# Altium integrated library Analog Devices Temperature Sensors.IntLib: 271 symbols (part 8 of 14)
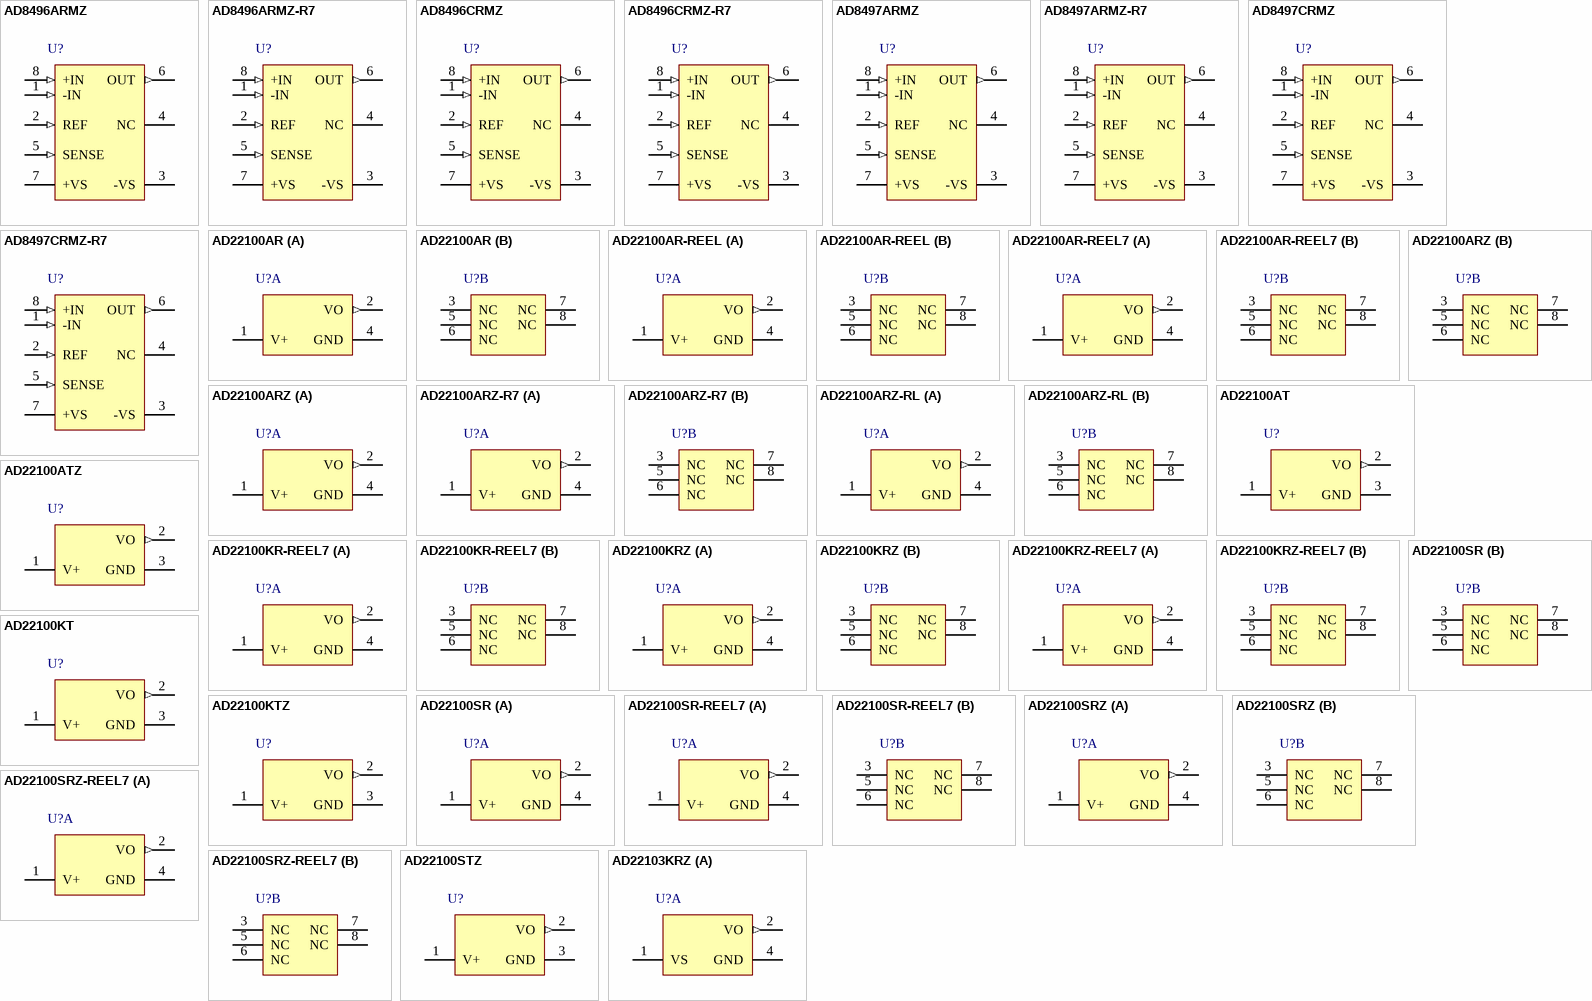
[diagram p14: symbols AD8496ARMZ to AD22103KRZ]

## AD22100AR-REEL7
designator U?
Voltage Output Temperature Sensor with Signal Conditioning, 4 to 6.5 V Supply, Industrial, 8-pin SOIC (R-8), Reel; Manufacturer: Analog Devices; PartNumber: AD22100AR-REEL7; DatasheetVersion: Rev. D; PackageVersion: 060506-A, 06/2006; PackageReference: R-8; PackageDescription: 8-Pin Standard Small Outline Package, Body 4.9 x 3.9 mm, Pitch 1.27 mm; Supplier 1: Digi-Key; Supplier Part Number 1: AD22100AR-REEL7-ND; Supplier 2: Newark; Supplier Part Number 2: 09B5052; Supplier 3: Mouser; Supplier Part Number 3: 584-AD22100AR-R7; Packing: Reel; Supply Voltage Range: 4 to 6.5 V; Mounting Technology: Surface Mount; Code_JEDEC: MS-012-AA; ComponentLink1Description: Manufacturer URL; ComponentLink1URL: http://www.analog.com/en/index.html; ComponentLink2Description: Datasheet; ComponentLink2URL: http://www.analog.com/static/imported-files/data_sheets/AD22100.pdf; ComponentLink3Description: Package Specification; ComponentLink3URL: http://www.analog.com/static/imported-files/packages/PKG_PDF/SOIC_Narrow%20(R)/R_8.pdf; ComponentLink4Description: Product URL; ComponentLink4URL: http://www.analog.com/en/mems-sensors/digital-temperature-sensors/ad22100/products/product.html
footprint ADI-R-8_N (SOIC, 8-Leads, Body 4.9x3.9mm, Pitch 1.27mm, IPC Medium Density)
footprint ADI-R-8_L (SOIC, 8-Leads, Body 4.9x3.9mm, Pitch 1.27mm, IPC High Density)
footprint ADI-R-8_M (SOIC, 8-Leads, Body 4.9x3.9mm, Pitch 1.27mm, IPC Low Density)
part A pins: 1 V+ (power) "Power Supply Input.", 2 VO (out) "Device Output.", 4 GND (power) "Ground Pin Must Be Connected to 0 V."
part B pins: 3 NC "No Connect.", 5 NC "No Connect.", 6 NC "No Connect.", 7 NC "No Connect.", 8 NC "No Connect."

## AD22100ARZ
designator U?
Voltage Output Temperature Sensor with Signal Conditioning, 4 to 6.5 V Supply, Industrial, 8-pin SOIC (R-8), Tube; Manufacturer: Analog Devices; PartNumber: AD22100ARZ; DatasheetVersion: Rev. D; PackageVersion: 060506-A, 06/2006; PackageReference: R-8; PackageDescription: 8-Pin Standard Small Outline Package, Body 4.9 x 3.9 mm, Pitch 1.27 mm; Supplier 1: Digi-Key; Supplier Part Number 1: AD22100ARZ-ND; Supplier 2: Newark; Supplier Part Number 2: 19M8799; Supplier 3: Mouser; Supplier Part Number 3: 584-AD22100ARZ; Packing: Tube; Supply Voltage Range: 4 to 6.5 V; Mounting Technology: Surface Mount; Code_JEDEC: MS-012-AA; ComponentLink1Description: Manufacturer URL; ComponentLink1URL: http://www.analog.com/en/index.html; ComponentLink2Description: Datasheet; ComponentLink2URL: http://www.analog.com/static/imported-files/data_sheets/AD22100.pdf; ComponentLink3Description: Package Specification; ComponentLink3URL: http://www.analog.com/static/imported-files/packages/PKG_PDF/SOIC_Narrow%20(R)/R_8.pdf; ComponentLink4Description: Product URL; ComponentLink4URL: http://www.analog.com/en/mems-sensors/digital-temperature-sensors/ad22100/products/product.html
footprint ADI-R-8_N (SOIC, 8-Leads, Body 4.9x3.9mm, Pitch 1.27mm, IPC Medium Density)
footprint ADI-R-8_L (SOIC, 8-Leads, Body 4.9x3.9mm, Pitch 1.27mm, IPC High Density)
footprint ADI-R-8_M (SOIC, 8-Leads, Body 4.9x3.9mm, Pitch 1.27mm, IPC Low Density)
part A pins: 1 V+ (power) "Power Supply Input.", 2 VO (out) "Device Output.", 4 GND (power) "Ground Pin Must Be Connected to 0 V."
part B pins: 3 NC "No Connect.", 5 NC "No Connect.", 6 NC "No Connect.", 7 NC "No Connect.", 8 NC "No Connect."

## AD22100ARZ-R7
designator U?
Voltage Output Temperature Sensor with Signal Conditioning, 4 to 6.5 V Supply, Industrial, 8-pin SOIC (R-8), Reel; Manufacturer: Analog Devices; PartNumber: AD22100ARZ-R7; DatasheetVersion: Rev. D; PackageVersion: 060506-A, 06/2006; PackageReference: R-8; PackageDescription: 8-Pin Standard Small Outline Package, Body 4.9 x 3.9 mm, Pitch 1.27 mm; Supplier 1: Digi-Key; Supplier Part Number 1: AD22100ARZ-R7-ND; Supplier 2: Newark; Supplier Part Number 2: 59K3505; Supplier 3: Mouser; Supplier Part Number 3: 584-AD22100ARZ-R7; Packing: Reel; Supply Voltage Range: 4 to 6.5 V; Mounting Technology: Surface Mount; Code_JEDEC: MS-012-AA; ComponentLink1Description: Manufacturer URL; ComponentLink1URL: http://www.analog.com/en/index.html; ComponentLink2Description: Datasheet; ComponentLink2URL: http://www.analog.com/static/imported-files/data_sheets/AD22100.pdf; ComponentLink3Description: Package Specification; ComponentLink3URL: http://www.analog.com/static/imported-files/packages/PKG_PDF/SOIC_Narrow%20(R)/R_8.pdf; ComponentLink4Description: Product URL; ComponentLink4URL: http://www.analog.com/en/mems-sensors/digital-temperature-sensors/ad22100/products/product.html
footprint ADI-R-8_N (SOIC, 8-Leads, Body 4.9x3.9mm, Pitch 1.27mm, IPC Medium Density)
footprint ADI-R-8_L (SOIC, 8-Leads, Body 4.9x3.9mm, Pitch 1.27mm, IPC High Density)
footprint ADI-R-8_M (SOIC, 8-Leads, Body 4.9x3.9mm, Pitch 1.27mm, IPC Low Density)
part A pins: 1 V+ (power) "Power Supply Input.", 2 VO (out) "Device Output.", 4 GND (power) "Ground Pin Must Be Connected to 0 V."
part B pins: 3 NC "No Connect.", 5 NC "No Connect.", 6 NC "No Connect.", 7 NC "No Connect.", 8 NC "No Connect."

## AD22100ARZ-RL
designator U?
Voltage Output Temperature Sensor with Signal Conditioning, 4 to 6.5 V Supply, Industrial, 8-pin SOIC (R-8), Reel; Manufacturer: Analog Devices; PartNumber: AD22100ARZ-RL; DatasheetVersion: Rev. D; PackageVersion: 060506-A, 06/2006; PackageReference: R-8; PackageDescription: 8-Pin Standard Small Outline Package, Body 4.9 x 3.9 mm, Pitch 1.27 mm; Supplier 1: Digi-Key; Supplier Part Number 1: AD22100ARZ-RL-ND; Supplier 2: Newark; Supplier Part Number 2: 59K3504; Supplier 3: Mouser; Supplier Part Number 3: 584-AD22100ARZ-R; Packing: Reel; Supply Voltage Range: 4 to 6.5 V; Mounting Technology: Surface Mount; Code_JEDEC: MS-012-AA; ComponentLink1Description: Manufacturer URL; ComponentLink1URL: http://www.analog.com/en/index.html; ComponentLink2Description: Datasheet; ComponentLink2URL: http://www.analog.com/static/imported-files/data_sheets/AD22100.pdf; ComponentLink3Description: Package Specification; ComponentLink3URL: http://www.analog.com/static/imported-files/packages/PKG_PDF/SOIC_Narrow%20(R)/R_8.pdf; ComponentLink4Description: Product URL; ComponentLink4URL: http://www.analog.com/en/mems-sensors/digital-temperature-sensors/ad22100/products/product.html
footprint ADI-R-8_N (SOIC, 8-Leads, Body 4.9x3.9mm, Pitch 1.27mm, IPC Medium Density)
footprint ADI-R-8_L (SOIC, 8-Leads, Body 4.9x3.9mm, Pitch 1.27mm, IPC High Density)
footprint ADI-R-8_M (SOIC, 8-Leads, Body 4.9x3.9mm, Pitch 1.27mm, IPC Low Density)
part A pins: 1 V+ (power) "Power Supply Input.", 2 VO (out) "Device Output.", 4 GND (power) "Ground Pin Must Be Connected to 0 V."
part B pins: 3 NC "No Connect.", 5 NC "No Connect.", 6 NC "No Connect.", 7 NC "No Connect.", 8 NC "No Connect."

## AD22100AT
designator U?
Voltage Output Temperature Sensor with Signal Conditioning, 4 to 6.5 V Supply, Industrial, 3-pin TO92 (T-3), Tray; Manufacturer: Analog Devices; PartNumber: AD22100AT; DatasheetVersion: Rev. D; PackageVersion: 042208-A, 04/2008; PackageReference: T-3; PackageDescription: 3-Pin Plastic Header-Style Package, 1.27 mm Pitch; Supplier 1: Digi-Key; Supplier Part Number 1: AD22100AT-ND; Supplier 2: Mouser; Supplier Part Number 2: 584-AD22100AT; Packing: Tray; Supply Voltage Range: 4 to 6.5 V; Mounting Technology: Through Hole; Code_JEDEC: TO-226-AA; ComponentLink1Description: Manufacturer URL; ComponentLink1URL: http://www.analog.com/en/index.html; ComponentLink2Description: Datasheet; ComponentLink2URL: http://www.analog.com/static/imported-files/data_sheets/AD22100.pdf; ComponentLink3Description: Package Specification; ComponentLink3URL: http://www.analog.com/static/imported-files/packages/PKG_PDF/TO-92(T)/T_3.pdf; ComponentLink4Description: Product URL; ComponentLink4URL: http://www.analog.com/en/mems-sensors/digital-temperature-sensors/ad22100/products/product.html
footprint ADI-T-3 (TO, Flat Index; 3 In-Line, Axial Leads; Body Dia. 5.1mm; Leads 0.48 x 0.48 mm (max))
pins: 1 V+ (power) "Power Supply Input.", 2 VO (out) "Device Output.", 3 GND (power) "Ground Pin Must Be Connected to 0 V."

## AD22100ATZ
designator U?
Voltage Output Temperature Sensor with Signal Conditioning, 4 to 6.5 V Supply, Industrial, 3-pin TO92 (T-3), Tray; Manufacturer: Analog Devices; PartNumber: AD22100ATZ; DatasheetVersion: Rev. D; PackageVersion: 042208-A, 04/2008; PackageReference: T-3; PackageDescription: 3-Pin Plastic Header-Style Package, 1.27 mm Pitch; Supplier 1: Digi-Key; Supplier Part Number 1: AD22100ATZ-ND; Supplier 2: Farnell; Supplier Part Number 2: 1438411; Supplier 3: Newark; Supplier Part Number 3: 59K3506; Supplier 4: Mouser; Supplier Part Number 4: 584-AD22100ATZ; Packing: Tray; Supply Voltage Range: 4 to 6.5 V; Mounting Technology: Through Hole; Code_JEDEC: TO-226-AA; ComponentLink1Description: Manufacturer URL; ComponentLink1URL: http://www.analog.com/en/index.html; ComponentLink2Description: Datasheet; ComponentLink2URL: http://www.analog.com/static/imported-files/data_sheets/AD22100.pdf; ComponentLink3Description: Package Specification; ComponentLink3URL: http://www.analog.com/static/imported-files/packages/PKG_PDF/TO-92(T)/T_3.pdf; ComponentLink4Description: Product URL; ComponentLink4URL: http://www.analog.com/en/mems-sensors/digital-temperature-sensors/ad22100/products/product.html
footprint ADI-T-3 (TO, Flat Index; 3 In-Line, Axial Leads; Body Dia. 5.1mm; Leads 0.48 x 0.48 mm (max))
pins: 1 V+ (power) "Power Supply Input.", 2 VO (out) "Device Output.", 3 GND (power) "Ground Pin Must Be Connected to 0 V."

## AD22100KR-REEL7
designator U?
Voltage Output Temperature Sensor with Signal Conditioning, 4 to 6.5 V Supply, Industrial, 8-pin SOIC (R-8), Reel; Manufacturer: Analog Devices; PartNumber: AD22100KR-REEL7; DatasheetVersion: Rev. D; PackageVersion: 060506-A, 06/2006; PackageReference: R-8; PackageDescription: 8-Pin Standard Small Outline Package, Body 4.9 x 3.9 mm, Pitch 1.27 mm; Supplier 1: Mouser; Supplier Part Number 1: N/A; Packing: Reel; Supply Voltage Range: 4 to 6.5 V; Mounting Technology: Surface Mount; Code_JEDEC: MS-012-AA; ComponentLink1Description: Manufacturer URL; ComponentLink1URL: http://www.analog.com/en/index.html; ComponentLink2Description: Datasheet; ComponentLink2URL: http://www.analog.com/static/imported-files/data_sheets/AD22100.pdf; ComponentLink3Description: Package Specification; ComponentLink3URL: http://www.analog.com/static/imported-files/packages/PKG_PDF/SOIC_Narrow%20(R)/R_8.pdf; ComponentLink4Description: Product URL; ComponentLink4URL: http://www.analog.com/en/mems-sensors/digital-temperature-sensors/ad22100/products/product.html
footprint ADI-R-8_N (SOIC, 8-Leads, Body 4.9x3.9mm, Pitch 1.27mm, IPC Medium Density)
footprint ADI-R-8_L (SOIC, 8-Leads, Body 4.9x3.9mm, Pitch 1.27mm, IPC High Density)
footprint ADI-R-8_M (SOIC, 8-Leads, Body 4.9x3.9mm, Pitch 1.27mm, IPC Low Density)
part A pins: 1 V+ (power) "Power Supply Input.", 2 VO (out) "Device Output.", 4 GND (power) "Ground Pin Must Be Connected to 0 V."
part B pins: 3 NC "No Connect.", 5 NC "No Connect.", 6 NC "No Connect.", 7 NC "No Connect.", 8 NC "No Connect."

## AD22100KRZ
designator U?
Voltage Output Temperature Sensor with Signal Conditioning, 4 to 6.5 V Supply, Industrial, 8-pin SOIC (R-8), Tube; Manufacturer: Analog Devices; PartNumber: AD22100KRZ; DatasheetVersion: Rev. D; PackageVersion: 060506-A, 06/2006; PackageReference: R-8; PackageDescription: 8-Pin Standard Small Outline Package, Body 4.9 x 3.9 mm, Pitch 1.27 mm; Supplier 1: Digi-Key; Supplier Part Number 1: AD22100KRZ-ND; Supplier 2: Farnell; Supplier Part Number 2: 1438412; Supplier 3: Newark; Supplier Part Number 3: 87H9743; Supplier 4: Mouser; Supplier Part Number 4: 584-AD22100KRZ; Packing: Tube; Supply Voltage Range: 4 to 6.5 V; Mounting Technology: Surface Mount; Code_JEDEC: MS-012-AA; ComponentLink1Description: Manufacturer URL; ComponentLink1URL: http://www.analog.com/en/index.html; ComponentLink2Description: Datasheet; ComponentLink2URL: http://www.analog.com/static/imported-files/data_sheets/AD22100.pdf; ComponentLink3Description: Package Specification; ComponentLink3URL: http://www.analog.com/static/imported-files/packages/PKG_PDF/SOIC_Narrow%20(R)/R_8.pdf; ComponentLink4Description: Product URL; ComponentLink4URL: http://www.analog.com/en/mems-sensors/digital-temperature-sensors/ad22100/products/product.html
footprint ADI-R-8_N (SOIC, 8-Leads, Body 4.9x3.9mm, Pitch 1.27mm, IPC Medium Density)
footprint ADI-R-8_L (SOIC, 8-Leads, Body 4.9x3.9mm, Pitch 1.27mm, IPC High Density)
footprint ADI-R-8_M (SOIC, 8-Leads, Body 4.9x3.9mm, Pitch 1.27mm, IPC Low Density)
part A pins: 1 V+ (power) "Power Supply Input.", 2 VO (out) "Device Output.", 4 GND (power) "Ground Pin Must Be Connected to 0 V."
part B pins: 3 NC "No Connect.", 5 NC "No Connect.", 6 NC "No Connect.", 7 NC "No Connect.", 8 NC "No Connect."

## AD22100KRZ-REEL7
designator U?
Voltage Output Temperature Sensor with Signal Conditioning, 4 to 6.5 V Supply, Industrial, 8-pin SOIC (R-8), Reel; Manufacturer: Analog Devices; PartNumber: AD22100KRZ-REEL7; DatasheetVersion: Rev. D; PackageVersion: 060506-A, 06/2006; PackageReference: R-8; PackageDescription: 8-Pin Standard Small Outline Package, Body 4.9 x 3.9 mm, Pitch 1.27 mm; Supplier 1: Digi-Key; Supplier Part Number 1: AD22100KRZ-REEL7-ND; Supplier 2: Newark; Supplier Part Number 2: 87H9744; Supplier 3: Mouser; Supplier Part Number 3: 584-AD22100KRZ-R7; Packing: Reel; Supply Voltage Range: 4 to 6.5 V; Mounting Technology: Surface Mount; Code_JEDEC: MS-012-AA; ComponentLink1Description: Manufacturer URL; ComponentLink1URL: http://www.analog.com/en/index.html; ComponentLink2Description: Datasheet; ComponentLink2URL: http://www.analog.com/static/imported-files/data_sheets/AD22100.pdf; ComponentLink3Description: Package Specification; ComponentLink3URL: http://www.analog.com/static/imported-files/packages/PKG_PDF/SOIC_Narrow%20(R)/R_8.pdf; ComponentLink4Description: Product URL; ComponentLink4URL: http://www.analog.com/en/mems-sensors/digital-temperature-sensors/ad22100/products/product.html
footprint ADI-R-8_N (SOIC, 8-Leads, Body 4.9x3.9mm, Pitch 1.27mm, IPC Medium Density)
footprint ADI-R-8_L (SOIC, 8-Leads, Body 4.9x3.9mm, Pitch 1.27mm, IPC High Density)
footprint ADI-R-8_M (SOIC, 8-Leads, Body 4.9x3.9mm, Pitch 1.27mm, IPC Low Density)
part A pins: 1 V+ (power) "Power Supply Input.", 2 VO (out) "Device Output.", 4 GND (power) "Ground Pin Must Be Connected to 0 V."
part B pins: 3 NC "No Connect.", 5 NC "No Connect.", 6 NC "No Connect.", 7 NC "No Connect.", 8 NC "No Connect."

## AD22100KT
designator U?
Voltage Output Temperature Sensor with Signal Conditioning, 4 to 6.5 V Supply, Industrial, 3-pin TO92 (T-3), Tray; Manufacturer: Analog Devices; PartNumber: AD22100KT; DatasheetVersion: Rev. D; PackageVersion: 042208-A, 04/2008; PackageReference: T-3; PackageDescription: 3-Pin Plastic Header-Style Package, 1.27 mm Pitch; Supplier 1: Digi-Key; Supplier Part Number 1: AD22100KT-ND; Supplier 2: Mouser; Supplier Part Number 2: 584-AD22100KT; Packing: Tray; Supply Voltage Range: 4 to 6.5 V; Mounting Technology: Through Hole; Code_JEDEC: TO-226-AA; ComponentLink1Description: Manufacturer URL; ComponentLink1URL: http://www.analog.com/en/index.html; ComponentLink2Description: Datasheet; ComponentLink2URL: http://www.analog.com/static/imported-files/data_sheets/AD22100.pdf; ComponentLink3Description: Package Specification; ComponentLink3URL: http://www.analog.com/static/imported-files/packages/PKG_PDF/TO-92(T)/T_3.pdf; ComponentLink4Description: Product URL; ComponentLink4URL: http://www.analog.com/en/mems-sensors/digital-temperature-sensors/ad22100/products/product.html
footprint ADI-T-3 (TO, Flat Index; 3 In-Line, Axial Leads; Body Dia. 5.1mm; Leads 0.48 x 0.48 mm (max))
pins: 1 V+ (power) "Power Supply Input.", 2 VO (out) "Device Output.", 3 GND (power) "Ground Pin Must Be Connected to 0 V."

## AD22100KTZ
designator U?
Voltage Output Temperature Sensor with Signal Conditioning, 4 to 6.5 V Supply, Industrial, 3-pin TO92 (T-3), Tray; Manufacturer: Analog Devices; PartNumber: AD22100KTZ; DatasheetVersion: Rev. D; PackageVersion: 042208-A, 04/2008; PackageReference: T-3; PackageDescription: 3-Pin Plastic Header-Style Package, 1.27 mm Pitch; Supplier 1: Digi-Key; Supplier Part Number 1: AD22100KTZ-ND; Supplier 2: Farnell; Supplier Part Number 2: 9605320; Supplier 3: Newark; Supplier Part Number 3: 59K3507; Supplier 4: Mouser; Supplier Part Number 4: 584-AD22100KTZ; Packing: Tray; Supply Voltage Range: 4 to 6.5 V; Mounting Technology: Through Hole; Code_JEDEC: TO-226-AA; ComponentLink1Description: Manufacturer URL; ComponentLink1URL: http://www.analog.com/en/index.html; ComponentLink2Description: Datasheet; ComponentLink2URL: http://www.analog.com/static/imported-files/data_sheets/AD22100.pdf; ComponentLink3Description: Package Specification; ComponentLink3URL: http://www.analog.com/static/imported-files/packages/PKG_PDF/TO-92(T)/T_3.pdf; ComponentLink4Description: Product URL; ComponentLink4URL: http://www.analog.com/en/mems-sensors/digital-temperature-sensors/ad22100/products/product.html
footprint ADI-T-3 (TO, Flat Index; 3 In-Line, Axial Leads; Body Dia. 5.1mm; Leads 0.48 x 0.48 mm (max))
pins: 1 V+ (power) "Power Supply Input.", 2 VO (out) "Device Output.", 3 GND (power) "Ground Pin Must Be Connected to 0 V."

## AD22100SR
designator U?
Voltage Output Temperature Sensor with Signal Conditioning, 4 to 6.5 V Supply, Industrial, 8-pin SOIC (R-8), Tube; Manufacturer: Analog Devices; PartNumber: AD22100SR; DatasheetVersion: Rev. D; PackageVersion: 060506-A, 06/2006; PackageReference: R-8; PackageDescription: 8-Pin Standard Small Outline Package, Body 4.9 x 3.9 mm, Pitch 1.27 mm; Supplier 1: Digi-Key; Supplier Part Number 1: AD22100SR-ND; Supplier 2: Mouser; Supplier Part Number 2: 584-AD22100SR; Packing: Tube; Supply Voltage Range: 4 to 6.5 V; Mounting Technology: Surface Mount; Code_JEDEC: MS-012-AA; ComponentLink1Description: Manufacturer URL; ComponentLink1URL: http://www.analog.com/en/index.html; ComponentLink2Description: Datasheet; ComponentLink2URL: http://www.analog.com/static/imported-files/data_sheets/AD22100.pdf; ComponentLink3Description: Package Specification; ComponentLink3URL: http://www.analog.com/static/imported-files/packages/PKG_PDF/SOIC_Narrow%20(R)/R_8.pdf; ComponentLink4Description: Product URL; ComponentLink4URL: http://www.analog.com/en/mems-sensors/digital-temperature-sensors/ad22100/products/product.html
footprint ADI-R-8_N (SOIC, 8-Leads, Body 4.9x3.9mm, Pitch 1.27mm, IPC Medium Density)
footprint ADI-R-8_L (SOIC, 8-Leads, Body 4.9x3.9mm, Pitch 1.27mm, IPC High Density)
footprint ADI-R-8_M (SOIC, 8-Leads, Body 4.9x3.9mm, Pitch 1.27mm, IPC Low Density)
part A pins: 1 V+ (power) "Power Supply Input.", 2 VO (out) "Device Output.", 4 GND (power) "Ground Pin Must Be Connected to 0 V."
part B pins: 3 NC "No Connect.", 5 NC "No Connect.", 6 NC "No Connect.", 7 NC "No Connect.", 8 NC "No Connect."

## AD22100SR-REEL7
designator U?
Voltage Output Temperature Sensor with Signal Conditioning, 4 to 6.5 V Supply, Industrial, 8-pin SOIC (R-8), Reel; Manufacturer: Analog Devices; PartNumber: AD22100SR-REEL7; DatasheetVersion: Rev. D; PackageVersion: 060506-A, 06/2006; PackageReference: R-8; PackageDescription: 8-Pin Standard Small Outline Package, Body 4.9 x 3.9 mm, Pitch 1.27 mm; Supplier 1: Digi-Key; Supplier Part Number 1: AD22100SR-REEL7-ND; Supplier 2: Newark; Supplier Part Number 2: 09B5055; Supplier 3: Mouser; Supplier Part Number 3: 584-AD22100SR-R7; Packing: Reel; Supply Voltage Range: 4 to 6.5 V; Mounting Technology: Surface Mount; Code_JEDEC: MS-012-AA; ComponentLink1Description: Manufacturer URL; ComponentLink1URL: http://www.analog.com/en/index.html; ComponentLink2Description: Datasheet; ComponentLink2URL: http://www.analog.com/static/imported-files/data_sheets/AD22100.pdf; ComponentLink3Description: Package Specification; ComponentLink3URL: http://www.analog.com/static/imported-files/packages/PKG_PDF/SOIC_Narrow%20(R)/R_8.pdf; ComponentLink4Description: Product URL; ComponentLink4URL: http://www.analog.com/en/mems-sensors/digital-temperature-sensors/ad22100/products/product.html
footprint ADI-R-8_N (SOIC, 8-Leads, Body 4.9x3.9mm, Pitch 1.27mm, IPC Medium Density)
footprint ADI-R-8_L (SOIC, 8-Leads, Body 4.9x3.9mm, Pitch 1.27mm, IPC High Density)
footprint ADI-R-8_M (SOIC, 8-Leads, Body 4.9x3.9mm, Pitch 1.27mm, IPC Low Density)
part A pins: 1 V+ (power) "Power Supply Input.", 2 VO (out) "Device Output.", 4 GND (power) "Ground Pin Must Be Connected to 0 V."
part B pins: 3 NC "No Connect.", 5 NC "No Connect.", 6 NC "No Connect.", 7 NC "No Connect.", 8 NC "No Connect."

## AD22100SRZ
designator U?
Voltage Output Temperature Sensor with Signal Conditioning, 4 to 6.5 V Supply, Industrial, 8-pin SOIC (R-8), Tube; Manufacturer: Analog Devices; PartNumber: AD22100SRZ; DatasheetVersion: Rev. D; PackageVersion: 060506-A, 06/2006; PackageReference: R-8; PackageDescription: 8-Pin Standard Small Outline Package, Body 4.9 x 3.9 mm, Pitch 1.27 mm; Supplier 1: Digi-Key; Supplier Part Number 1: AD22100SRZ-ND; Supplier 2: Farnell; Supplier Part Number 2: 2377125; Supplier 3: Newark; Supplier Part Number 3: 87H9745; Supplier 4: Mouser; Supplier Part Number 4: 584-AD22100SRZ; Packing: Tube; Supply Voltage Range: 4 to 6.5 V; Mounting Technology: Surface Mount; Code_JEDEC: MS-012-AA; ComponentLink1Description: Manufacturer URL; ComponentLink1URL: http://www.analog.com/en/index.html; ComponentLink2Description: Datasheet; ComponentLink2URL: http://www.analog.com/static/imported-files/data_sheets/AD22100.pdf; ComponentLink3Description: Package Specification; ComponentLink3URL: http://www.analog.com/static/imported-files/packages/PKG_PDF/SOIC_Narrow%20(R)/R_8.pdf; ComponentLink4Description: Product URL; ComponentLink4URL: http://www.analog.com/en/mems-sensors/digital-temperature-sensors/ad22100/products/product.html
footprint ADI-R-8_N (SOIC, 8-Leads, Body 4.9x3.9mm, Pitch 1.27mm, IPC Medium Density)
footprint ADI-R-8_L (SOIC, 8-Leads, Body 4.9x3.9mm, Pitch 1.27mm, IPC High Density)
footprint ADI-R-8_M (SOIC, 8-Leads, Body 4.9x3.9mm, Pitch 1.27mm, IPC Low Density)
part A pins: 1 V+ (power) "Power Supply Input.", 2 VO (out) "Device Output.", 4 GND (power) "Ground Pin Must Be Connected to 0 V."
part B pins: 3 NC "No Connect.", 5 NC "No Connect.", 6 NC "No Connect.", 7 NC "No Connect.", 8 NC "No Connect."

## AD22100SRZ-REEL7
designator U?
Voltage Output Temperature Sensor with Signal Conditioning, 4 to 6.5 V Supply, Industrial, 8-pin SOIC (R-8), Reel; Manufacturer: Analog Devices; PartNumber: AD22100SRZ-REEL7; DatasheetVersion: Rev. D; PackageVersion: 060506-A, 06/2006; PackageReference: R-8; PackageDescription: 8-Pin Standard Small Outline Package, Body 4.9 x 3.9 mm, Pitch 1.27 mm; Supplier 1: Digi-Key; Supplier Part Number 1: AD22100SRZ-REEL7-ND; Supplier 2: Newark; Supplier Part Number 2: 87H9746; Supplier 3: Mouser; Supplier Part Number 3: 584-AD22100SRZ-R7; Packing: Reel; Supply Voltage Range: 4 to 6.5 V; Mounting Technology: Surface Mount; Code_JEDEC: MS-012-AA; ComponentLink1Description: Manufacturer URL; ComponentLink1URL: http://www.analog.com/en/index.html; ComponentLink2Description: Datasheet; ComponentLink2URL: http://www.analog.com/static/imported-files/data_sheets/AD22100.pdf; ComponentLink3Description: Package Specification; ComponentLink3URL: http://www.analog.com/static/imported-files/packages/PKG_PDF/SOIC_Narrow%20(R)/R_8.pdf; ComponentLink4Description: Product URL; ComponentLink4URL: http://www.analog.com/en/mems-sensors/digital-temperature-sensors/ad22100/products/product.html
footprint ADI-R-8_N (SOIC, 8-Leads, Body 4.9x3.9mm, Pitch 1.27mm, IPC Medium Density)
footprint ADI-R-8_L (SOIC, 8-Leads, Body 4.9x3.9mm, Pitch 1.27mm, IPC High Density)
footprint ADI-R-8_M (SOIC, 8-Leads, Body 4.9x3.9mm, Pitch 1.27mm, IPC Low Density)
part A pins: 1 V+ (power) "Power Supply Input.", 2 VO (out) "Device Output.", 4 GND (power) "Ground Pin Must Be Connected to 0 V."
part B pins: 3 NC "No Connect.", 5 NC "No Connect.", 6 NC "No Connect.", 7 NC "No Connect.", 8 NC "No Connect."

## AD22100STZ
designator U?
Voltage Output Temperature Sensor with Signal Conditioning, 4 to 6.5 V Supply, Industrial, 3-pin TO92 (T-3), Tray; Manufacturer: Analog Devices; PartNumber: AD22100STZ; DatasheetVersion: Rev. D; PackageVersion: 042208-A, 04/2008; PackageReference: T-3; PackageDescription: 3-Pin Plastic Header-Style Package, 1.27 mm Pitch; Supplier 1: Digi-Key; Supplier Part Number 1: AD22100STZ-ND; Supplier 2: Farnell; Supplier Part Number 2: 1438413; Supplier 3: Newark; Supplier Part Number 3: 59K3508; Supplier 4: Mouser; Supplier Part Number 4: 584-AD22100STZ; Packing: Tray; Supply Voltage Range: 4 to 6.5 V; Mounting Technology: Through Hole; Code_JEDEC: TO-226-AA; ComponentLink1Description: Manufacturer URL; ComponentLink1URL: http://www.analog.com/en/index.html; ComponentLink2Description: Datasheet; ComponentLink2URL: http://www.analog.com/static/imported-files/data_sheets/AD22100.pdf; ComponentLink3Description: Package Specification; ComponentLink3URL: http://www.analog.com/static/imported-files/packages/PKG_PDF/TO-92(T)/T_3.pdf; ComponentLink4Description: Product URL; ComponentLink4URL: http://www.analog.com/en/mems-sensors/digital-temperature-sensors/ad22100/products/product.html
footprint ADI-T-3 (TO, Flat Index; 3 In-Line, Axial Leads; Body Dia. 5.1mm; Leads 0.48 x 0.48 mm (max))
pins: 1 V+ (power) "Power Supply Input.", 2 VO (out) "Device Output.", 3 GND (power) "Ground Pin Must Be Connected to 0 V."

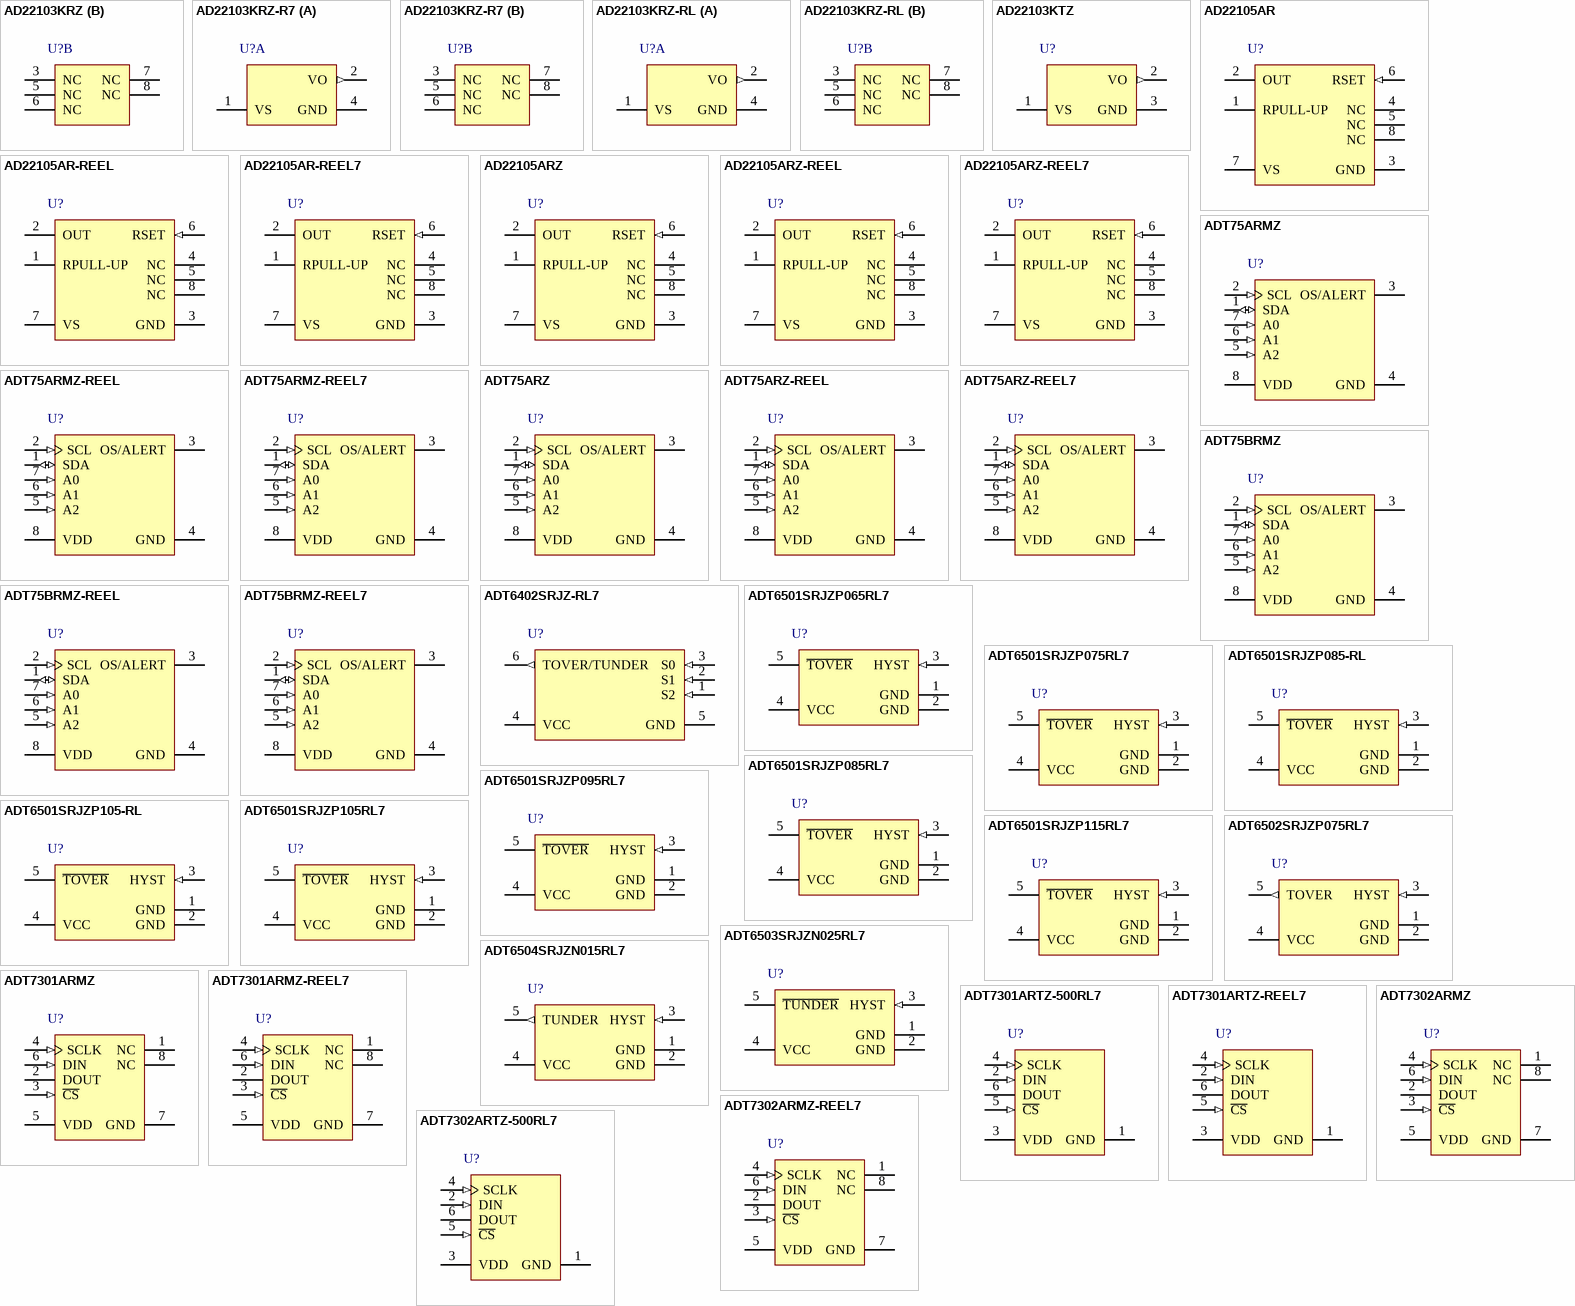
[diagram p4: symbols AD22103KRZ to ADT7302ARTZ-500RL7]

## AD22103KRZ
designator U?
Voltage Output 3.3 V Temperature Sensor with Signal Conditioning, 2.7 to 3.6 V Supply, Industrial, 8-pin SOIC (R-8), Tube; Manufacturer: Analog Devices; PartNumber: AD22103KRZ; DatasheetVersion: Rev. 0; PackageVersion: 060506-A, 06/2006; PackageReference: R-8; PackageDescription: 8-Pin Standard Small Outline Package, Body 4.9 x 3.9 mm, Pitch 1.27 mm; Supplier 1: Digi-Key; Supplier Part Number 1: AD22103KRZ-ND; Supplier 2: Farnell; Supplier Part Number 2: 1438949; Supplier 3: Newark; Supplier Part Number 3: 59K3509; Supplier 4: Mouser; Supplier Part Number 4: 584-AD22103KRZ; Packing: Tube; Supply Voltage Range: 2.7 to 3.6 V; Mounting Technology: Surface Mount; Code_JEDEC: MS-012-AA; ComponentLink1Description: Manufacturer URL; ComponentLink1URL: http://www.analog.com/en/index.html; ComponentLink2Description: Datasheet; ComponentLink2URL: http://www.analog.com/static/imported-files/data_sheets/AD22103.pdf; ComponentLink3Description: Package Specification; ComponentLink3URL: http://www.analog.com/static/imported-files/packages/PKG_PDF/SOIC_Narrow%20(R)/R_8.pdf; ComponentLink4Description: Product URL; ComponentLink4URL: http://www.analog.com/en/mems-sensors/digital-temperature-sensors/ad22103/products/product.html
footprint ADI-R-8_N (SOIC, 8-Leads, Body 4.9x3.9mm, Pitch 1.27mm, IPC Medium Density)
footprint ADI-R-8_L (SOIC, 8-Leads, Body 4.9x3.9mm, Pitch 1.27mm, IPC High Density)
footprint ADI-R-8_M (SOIC, 8-Leads, Body 4.9x3.9mm, Pitch 1.27mm, IPC Low Density)
part A pins: 1 VS (power) "Power Supply Input", 2 VO (out) "Device Output", 4 GND (power) "Ground Pin Must Be Connected to 0 V"
part B pins: 3 NC "No Connect", 5 NC "No Connect", 6 NC "No Connect", 7 NC "No Connect", 8 NC "No Connect"

## AD22103KRZ-R7
designator U?
Voltage Output 3.3 V Temperature Sensor with Signal Conditioning, 2.7 to 3.6 V Supply, Industrial, 8-pin SOIC (R-8), Reel; Manufacturer: Analog Devices; PartNumber: AD22103KRZ-R7; DatasheetVersion: Rev. 0; PackageVersion: 060506-A, 06/2006; PackageReference: R-8; PackageDescription: 8-Pin Standard Small Outline Package, Body 4.9 x 3.9 mm, Pitch 1.27 mm; Supplier 1: Digi-Key; Supplier Part Number 1: AD22103KRZ-R7-ND; Supplier 2: Mouser; Supplier Part Number 2: 584-AD22103KRZ-R7; Packing: Reel; Supply Voltage Range: 2.7 to 3.6 V; Mounting Technology: Surface Mount; Code_JEDEC: MS-012-AA; ComponentLink1Description: Manufacturer URL; ComponentLink1URL: http://www.analog.com/en/index.html; ComponentLink2Description: Datasheet; ComponentLink2URL: http://www.analog.com/static/imported-files/data_sheets/AD22103.pdf; ComponentLink3Description: Package Specification; ComponentLink3URL: http://www.analog.com/static/imported-files/packages/PKG_PDF/SOIC_Narrow%20(R)/R_8.pdf; ComponentLink4Description: Product URL; ComponentLink4URL: http://www.analog.com/en/mems-sensors/digital-temperature-sensors/ad22103/products/product.html
footprint ADI-R-8_N (SOIC, 8-Leads, Body 4.9x3.9mm, Pitch 1.27mm, IPC Medium Density)
footprint ADI-R-8_L (SOIC, 8-Leads, Body 4.9x3.9mm, Pitch 1.27mm, IPC High Density)
footprint ADI-R-8_M (SOIC, 8-Leads, Body 4.9x3.9mm, Pitch 1.27mm, IPC Low Density)
part A pins: 1 VS (power) "Power Supply Input", 2 VO (out) "Device Output", 4 GND (power) "Ground Pin Must Be Connected to 0 V"
part B pins: 3 NC "No Connect", 5 NC "No Connect", 6 NC "No Connect", 7 NC "No Connect", 8 NC "No Connect"

## AD22103KRZ-RL
designator U?
Voltage Output 3.3 V Temperature Sensor with Signal Conditioning, 2.7 to 3.6 V Supply, Industrial, 8-pin SOIC (R-8), Reel; Manufacturer: Analog Devices; PartNumber: AD22103KRZ-RL; DatasheetVersion: Rev. 0; PackageVersion: 060506-A, 06/2006; PackageReference: R-8; PackageDescription: 8-Pin Standard Small Outline Package, Body 4.9 x 3.9 mm, Pitch 1.27 mm; Supplier 1: Mouser; Supplier Part Number 1: N/A; Packing: Reel; Supply Voltage Range: 2.7 to 3.6 V; Mounting Technology: Surface Mount; Code_JEDEC: MS-012-AA; ComponentLink1Description: Manufacturer URL; ComponentLink1URL: http://www.analog.com/en/index.html; ComponentLink2Description: Datasheet; ComponentLink2URL: http://www.analog.com/static/imported-files/data_sheets/AD22103.pdf; ComponentLink3Description: Package Specification; ComponentLink3URL: http://www.analog.com/static/imported-files/packages/PKG_PDF/SOIC_Narrow%20(R)/R_8.pdf; ComponentLink4Description: Product URL; ComponentLink4URL: http://www.analog.com/en/mems-sensors/digital-temperature-sensors/ad22103/products/product.html
footprint ADI-R-8_N (SOIC, 8-Leads, Body 4.9x3.9mm, Pitch 1.27mm, IPC Medium Density)
footprint ADI-R-8_L (SOIC, 8-Leads, Body 4.9x3.9mm, Pitch 1.27mm, IPC High Density)
footprint ADI-R-8_M (SOIC, 8-Leads, Body 4.9x3.9mm, Pitch 1.27mm, IPC Low Density)
part A pins: 1 VS (power) "Power Supply Input", 2 VO (out) "Device Output", 4 GND (power) "Ground Pin Must Be Connected to 0 V"
part B pins: 3 NC "No Connect", 5 NC "No Connect", 6 NC "No Connect", 7 NC "No Connect", 8 NC "No Connect"

## AD22103KTZ
designator U?
Voltage Output 3.3 V Temperature Sensor with Signal Conditioning, 2.7 to 3.6 V Supply, Industrial, 3-pin TO92 (T-3), Tray; Manufacturer: Analog Devices; PartNumber: AD22103KTZ; DatasheetVersion: Rev. 0; PackageVersion: 042208-A, 04/2008; PackageReference: T-3; PackageDescription: 3-Pin Plastic Header-Style Package, 1.27 mm Pitch; Supplier 1: Digi-Key; Supplier Part Number 1: AD22103KTZ-ND; Supplier 2: Farnell; Supplier Part Number 2: 1438415; Supplier 3: Newark; Supplier Part Number 3: 15P0633; Supplier 4: Newark; Supplier Part Number 4: 59K3511; Supplier 5: Mouser; Supplier Part Number 5: 584-AD22103KTZ; Packing: Tray; Supply Voltage Range: 2.7 to 3.6 V; Mounting Technology: Through Hole; Code_JEDEC: TO-226-AA; ComponentLink1Description: Manufacturer URL; ComponentLink1URL: http://www.analog.com/en/index.html; ComponentLink2Description: Datasheet; ComponentLink2URL: http://www.analog.com/static/imported-files/data_sheets/AD22103.pdf; ComponentLink3Description: Package Specification; ComponentLink3URL: http://www.analog.com/static/imported-files/packages/PKG_PDF/TO-92(T)/T_3.pdf; ComponentLink4Description: Product URL; ComponentLink4URL: http://www.analog.com/en/mems-sensors/digital-temperature-sensors/ad22103/products/product.html
footprint ADI-T-3 (TO, Flat Index; 3 In-Line, Axial Leads; Body Dia. 5.1mm; Leads 0.48 x 0.48 mm (max))
pins: 1 VS (power) "Power Supply Input", 2 VO (out) "Device Output", 3 GND (power) "Ground Pin Must Be Connected to 0 V"

## AD22105AR
designator U?
Low Voltage, Resistor Programmable Thermostatic Switch, 2.7 to 7 V Supply, Industrial, 8-pin SOIC (R-8), Tube; Manufacturer: Analog Devices; PartNumber: AD22105AR; Temp Range(s): -40 to +150 degC; DatasheetVersion: Rev. 0; PackageVersion: 060506-A, 06/2006; PackageReference: R-8; PackageDescription: 8-Pin Standard Small Outline Package, Body 4.9 x 3.9 mm, Pitch 1.27 mm; Supplier 1: Digi-Key; Supplier Part Number 1: AD22105AR-ND; Supplier 2: Mouser; Supplier Part Number 2: 584-AD22105AR; Packing: Tube; Sensor Output: Thermostatic Switch; Supply Voltage Range: 2.7 to 7 V; Mounting Technology: Surface Mount; Code_JEDEC: MS-012-AA; ComponentLink1Description: Manufacturer URL; ComponentLink1URL: http://www.analog.com/en/index.html; ComponentLink2Description: Datasheet; ComponentLink2URL: http://www.analog.com/static/imported-files/data_sheets/AD22105.pdf; ComponentLink3Description: Package Specification; ComponentLink3URL: http://www.analog.com/static/imported-files/packages/PKG_PDF/SOIC_Narrow%20(R)/R_8.pdf; ComponentLink4Description: Product URL; ComponentLink4URL: http://www.analog.com/en/mems-sensors/digital-temperature-sensors/ad22105/products/product.html
footprint ADI-R-8_N (SOIC, 8-Leads, Body 4.9x3.9mm, Pitch 1.27mm, IPC Medium Density)
footprint ADI-R-8_L (SOIC, 8-Leads, Body 4.9x3.9mm, Pitch 1.27mm, IPC High Density)
footprint ADI-R-8_M (SOIC, 8-Leads, Body 4.9x3.9mm, Pitch 1.27mm, IPC Low Density)
pins: 1 RPULL-UP "RPULL-UP, Internal 200 k ohm (Optional)", 2 OUT (oc), 3 GND (power), 4 NC "No Connection", 5 NC "No Connection", 6 RSET (in) "RSET, Temperature Setpoint Resistor", 7 VS (power), 8 NC "No Connection"

## AD22105AR-REEL
designator U?
Low Voltage, Resistor Programmable Thermostatic Switch, 2.7 to 7 V Supply, Industrial, 8-pin SOIC (R-8), Reel; Manufacturer: Analog Devices; PartNumber: AD22105AR-REEL; Temp Range(s): -40 to +150 degC; DatasheetVersion: Rev. 0; PackageVersion: 060506-A, 06/2006; PackageReference: R-8; PackageDescription: 8-Pin Standard Small Outline Package, Body 4.9 x 3.9 mm, Pitch 1.27 mm; Supplier 1: Digi-Key; Supplier Part Number 1: AD22105AR-REEL-ND; Supplier 2: Mouser; Supplier Part Number 2: 584-AD22105AR-R; Packing: Reel; Sensor Output: Thermostatic Switch; Supply Voltage Range: 2.7 to 7 V; Mounting Technology: Surface Mount; Code_JEDEC: MS-012-AA; ComponentLink1Description: Manufacturer URL; ComponentLink1URL: http://www.analog.com/en/index.html; ComponentLink2Description: Datasheet; ComponentLink2URL: http://www.analog.com/static/imported-files/data_sheets/AD22105.pdf; ComponentLink3Description: Package Specification; ComponentLink3URL: http://www.analog.com/static/imported-files/packages/PKG_PDF/SOIC_Narrow%20(R)/R_8.pdf; ComponentLink4Description: Product URL; ComponentLink4URL: http://www.analog.com/en/mems-sensors/digital-temperature-sensors/ad22105/products/product.html
footprint ADI-R-8_N (SOIC, 8-Leads, Body 4.9x3.9mm, Pitch 1.27mm, IPC Medium Density)
footprint ADI-R-8_L (SOIC, 8-Leads, Body 4.9x3.9mm, Pitch 1.27mm, IPC High Density)
footprint ADI-R-8_M (SOIC, 8-Leads, Body 4.9x3.9mm, Pitch 1.27mm, IPC Low Density)
pins: 1 RPULL-UP "RPULL-UP, Internal 200 k ohm (Optional)", 2 OUT (oc), 3 GND (power), 4 NC "No Connection", 5 NC "No Connection", 6 RSET (in) "RSET, Temperature Setpoint Resistor", 7 VS (power), 8 NC "No Connection"

## AD22105AR-REEL7
designator U?
Low Voltage, Resistor Programmable Thermostatic Switch, 2.7 to 7 V Supply, Industrial, 8-pin SOIC (R-8), Reel; Manufacturer: Analog Devices; PartNumber: AD22105AR-REEL7; Temp Range(s): -40 to +150 degC; DatasheetVersion: Rev. 0; PackageVersion: 060506-A, 06/2006; PackageReference: R-8; PackageDescription: 8-Pin Standard Small Outline Package, Body 4.9 x 3.9 mm, Pitch 1.27 mm; Supplier 1: Digi-Key; Supplier Part Number 1: AD22105AR-REEL7-ND; Supplier 2: Newark; Supplier Part Number 2: 82H2839; Supplier 3: Mouser; Supplier Part Number 3: 584-AD22105AR-R7; Packing: Reel; Sensor Output: Thermostatic Switch; Supply Voltage Range: 2.7 to 7 V; Mounting Technology: Surface Mount; Code_JEDEC: MS-012-AA; ComponentLink1Description: Manufacturer URL; ComponentLink1URL: http://www.analog.com/en/index.html; ComponentLink2Description: Datasheet; ComponentLink2URL: http://www.analog.com/static/imported-files/data_sheets/AD22105.pdf; ComponentLink3Description: Package Specification; ComponentLink3URL: http://www.analog.com/static/imported-files/packages/PKG_PDF/SOIC_Narrow%20(R)/R_8.pdf; ComponentLink4Description: Product URL; ComponentLink4URL: http://www.analog.com/en/mems-sensors/digital-temperature-sensors/ad22105/products/product.html
footprint ADI-R-8_N (SOIC, 8-Leads, Body 4.9x3.9mm, Pitch 1.27mm, IPC Medium Density)
footprint ADI-R-8_L (SOIC, 8-Leads, Body 4.9x3.9mm, Pitch 1.27mm, IPC High Density)
footprint ADI-R-8_M (SOIC, 8-Leads, Body 4.9x3.9mm, Pitch 1.27mm, IPC Low Density)
pins: 1 RPULL-UP "RPULL-UP, Internal 200 k ohm (Optional)", 2 OUT (oc), 3 GND (power), 4 NC "No Connection", 5 NC "No Connection", 6 RSET (in) "RSET, Temperature Setpoint Resistor", 7 VS (power), 8 NC "No Connection"

## AD22105ARZ
designator U?
Low Voltage, Resistor Programmable Thermostatic Switch, 2.7 to 7 V Supply, Industrial, 8-pin SOIC (R-8), Tube; Manufacturer: Analog Devices; PartNumber: AD22105ARZ; Temp Range(s): -40 to +150 degC; DatasheetVersion: Rev. 0; PackageVersion: 060506-A, 06/2006; PackageReference: R-8; PackageDescription: 8-Pin Standard Small Outline Package, Body 4.9 x 3.9 mm, Pitch 1.27 mm; Supplier 1: Digi-Key; Supplier Part Number 1: AD22105ARZ-ND; Supplier 2: Farnell; Supplier Part Number 2: 9425659; Supplier 3: Newark; Supplier Part Number 3: 19M0784; Supplier 4: Mouser; Supplier Part Number 4: 584-AD22105ARZ; Packing: Tube; Sensor Output: Thermostatic Switch; Supply Voltage Range: 2.7 to 7 V; Mounting Technology: Surface Mount; Code_JEDEC: MS-012-AA; ComponentLink1Description: Manufacturer URL; ComponentLink1URL: http://www.analog.com/en/index.html; ComponentLink2Description: Datasheet; ComponentLink2URL: http://www.analog.com/static/imported-files/data_sheets/AD22105.pdf; ComponentLink3Description: Package Specification; ComponentLink3URL: http://www.analog.com/static/imported-files/packages/PKG_PDF/SOIC_Narrow%20(R)/R_8.pdf; ComponentLink4Description: Product URL; ComponentLink4URL: http://www.analog.com/en/mems-sensors/digital-temperature-sensors/ad22105/products/product.html
footprint ADI-R-8_N (SOIC, 8-Leads, Body 4.9x3.9mm, Pitch 1.27mm, IPC Medium Density)
footprint ADI-R-8_L (SOIC, 8-Leads, Body 4.9x3.9mm, Pitch 1.27mm, IPC High Density)
footprint ADI-R-8_M (SOIC, 8-Leads, Body 4.9x3.9mm, Pitch 1.27mm, IPC Low Density)
pins: 1 RPULL-UP "RPULL-UP, Internal 200 k ohm (Optional)", 2 OUT (oc), 3 GND (power), 4 NC "No Connection", 5 NC "No Connection", 6 RSET (in) "RSET, Temperature Setpoint Resistor", 7 VS (power), 8 NC "No Connection"

## AD22105ARZ-REEL
designator U?
Low Voltage, Resistor Programmable Thermostatic Switch, 2.7 to 7 V Supply, Industrial, 8-pin SOIC (R-8), Reel; Manufacturer: Analog Devices; PartNumber: AD22105ARZ-REEL; Temp Range(s): -40 to +150 degC; DatasheetVersion: Rev. 0; PackageVersion: 060506-A, 06/2006; PackageReference: R-8; PackageDescription: 8-Pin Standard Small Outline Package, Body 4.9 x 3.9 mm, Pitch 1.27 mm; Supplier 1: Digi-Key; Supplier Part Number 1: AD22105ARZ-REEL-ND; Supplier 2: Mouser; Supplier Part Number 2: 584-AD22105ARZ-R; Packing: Reel; Sensor Output: Thermostatic Switch; Supply Voltage Range: 2.7 to 7 V; Mounting Technology: Surface Mount; Code_JEDEC: MS-012-AA; ComponentLink1Description: Manufacturer URL; ComponentLink1URL: http://www.analog.com/en/index.html; ComponentLink2Description: Datasheet; ComponentLink2URL: http://www.analog.com/static/imported-files/data_sheets/AD22105.pdf; ComponentLink3Description: Package Specification; ComponentLink3URL: http://www.analog.com/static/imported-files/packages/PKG_PDF/SOIC_Narrow%20(R)/R_8.pdf; ComponentLink4Description: Product URL; ComponentLink4URL: http://www.analog.com/en/mems-sensors/digital-temperature-sensors/ad22105/products/product.html
footprint ADI-R-8_N (SOIC, 8-Leads, Body 4.9x3.9mm, Pitch 1.27mm, IPC Medium Density)
footprint ADI-R-8_L (SOIC, 8-Leads, Body 4.9x3.9mm, Pitch 1.27mm, IPC High Density)
footprint ADI-R-8_M (SOIC, 8-Leads, Body 4.9x3.9mm, Pitch 1.27mm, IPC Low Density)
pins: 1 RPULL-UP "RPULL-UP, Internal 200 k ohm (Optional)", 2 OUT (oc), 3 GND (power), 4 NC "No Connection", 5 NC "No Connection", 6 RSET (in) "RSET, Temperature Setpoint Resistor", 7 VS (power), 8 NC "No Connection"

## AD22105ARZ-REEL7
designator U?
Low Voltage, Resistor Programmable Thermostatic Switch, 2.7 to 7 V Supply, Industrial, 8-pin SOIC (R-8), Reel; Manufacturer: Analog Devices; PartNumber: AD22105ARZ-REEL7; Temp Range(s): -40 to +150 degC; DatasheetVersion: Rev. 0; PackageVersion: 060506-A, 06/2006; PackageReference: R-8; PackageDescription: 8-Pin Standard Small Outline Package, Body 4.9 x 3.9 mm, Pitch 1.27 mm; Supplier 1: Digi-Key; Supplier Part Number 1: AD22105ARZ-REEL7TR-ND; Supplier 2: Digi-Key; Supplier Part Number 2: AD22105ARZ-REEL7CT-ND; Supplier 3: Digi-Key; Supplier Part Number 3: AD22105ARZ-REEL7DKR-ND; Supplier 4: Mouser; Supplier Part Number 4: 584-AD22105ARZ-R7; Packing: Reel; Sensor Output: Thermostatic Switch; Supply Voltage Range: 2.7 to 7 V; Mounting Technology: Surface Mount; Code_JEDEC: MS-012-AA; ComponentLink1Description: Manufacturer URL; ComponentLink1URL: http://www.analog.com/en/index.html; ComponentLink2Description: Datasheet; ComponentLink2URL: http://www.analog.com/static/imported-files/data_sheets/AD22105.pdf; ComponentLink3Description: Package Specification; ComponentLink3URL: http://www.analog.com/static/imported-files/packages/PKG_PDF/SOIC_Narrow%20(R)/R_8.pdf; ComponentLink4Description: Product URL; ComponentLink4URL: http://www.analog.com/en/mems-sensors/digital-temperature-sensors/ad22105/products/product.html
footprint ADI-R-8_N (SOIC, 8-Leads, Body 4.9x3.9mm, Pitch 1.27mm, IPC Medium Density)
footprint ADI-R-8_L (SOIC, 8-Leads, Body 4.9x3.9mm, Pitch 1.27mm, IPC High Density)
footprint ADI-R-8_M (SOIC, 8-Leads, Body 4.9x3.9mm, Pitch 1.27mm, IPC Low Density)
pins: 1 RPULL-UP "RPULL-UP, Internal 200 k ohm (Optional)", 2 OUT (oc), 3 GND (power), 4 NC "No Connection", 5 NC "No Connection", 6 RSET (in) "RSET, Temperature Setpoint Resistor", 7 VS (power), 8 NC "No Connection"

## ADT75ARMZ
designator U?
+/-1 degrees C Accurate, 12-Bit Digital Temperature Sensor, 2.7 to 5.5 V Supply, Industrial, 8-pin SOP (RM-8), Tube; Manufacturer: Analog Devices; PartNumber: ADT75ARMZ; DatasheetVersion: Rev. B; PackageVersion: 08/2005; PackageReference: RM-8; PackageDescription: 8-Pin Mini Small Outline Package, Body 3 x 3 mm, Pitch 0.65 mm; Supplier 1: Digi-Key; Supplier Part Number 1: ADT75ARMZ-ND; Supplier 2: Farnell; Supplier Part Number 2: 2377119; Supplier 3: Newark; Supplier Part Number 3: 30M9930; Supplier 4: Mouser; Supplier Part Number 4: 584-ADT75ARMZ; Packing: Tube; Supply Voltage Range: 2.7 to 5.5 V; Mounting Technology: Surface Mount; Code_JEDEC: MO-187-AA; ComponentLink1Description: Manufacturer URL; ComponentLink1URL: http://www.analog.com/en/index.html; ComponentLink2Description: Datasheet; ComponentLink2URL: http://www.analog.com/static/imported-files/data_sheets/ADT75.pdf; ComponentLink3Description: Package Specification; ComponentLink3URL: http://www.analog.com/static/imported-files/packages/PKG_PDF/MSOP%28RM%29/RM_8.pdf; ComponentLink4Description: Product URL; ComponentLink4URL: http://www.analog.com/en/mems-sensors/digital-temperature-sensors/adt75/products/product.html
footprint ADI-RM-8_N (SOP, 8-Leads, Body 3x3mm, Pitch 0.65mm, IPC Medium Density)
footprint ADI-RM-8_L (SOP, 8-Leads, Body 3x3mm, Pitch 0.65mm, IPC High Density)
footprint ADI-RM-8_M (SOP, 8-Leads, Body 3x3mm, Pitch 0.65mm, IPC Low Density)
pins: 1 SDA (io) "SMBus/I2C Serial Data Input/Output. Serial data that is loaded into and read from the ADT75 registers is provided on this pin. Open-drain configuration; needs a pull-up resistor.", 2 SCL (in) "Serial Clock Input. This is the clock input for the serial port. The serial clock is used to clock in and clock out data to and from any register of the ADT75. Open-drain configuration; needs a pull-up resistor.", 3 OS/ALERT (oc) "Over- and Undertemperature Indicator. Default power as an OS pin. Open-drain configuration; needs a pull-up resistor.", 4 GND (power) "Analog and Digital Ground.", 5 A2 (in) "SMBus/I2C Serial Bus Address Selection Pin. Logic input. Can be set to GND or VDD.", 6 A1 (in) "SMBus/I2C Serial Bus Address Selection Pin. Logic input. Can be set to GND or VDD.", 7 A0 (in) "SMBus/I2C Serial Bus Address Selection Pin. Logic input. Can be set to GND or VDD.", 8 VDD (power) "Positive Supply Voltage, 2.7 V to 5.5 V. Decouple the supply to ground."

## ADT75ARMZ-REEL
designator U?
+/-1 degrees C Accurate, 12-Bit Digital Temperature Sensor, 2.7 to 5.5 V Supply, Industrial, 8-pin SOP (RM-8), Reel; Manufacturer: Analog Devices; PartNumber: ADT75ARMZ-REEL; DatasheetVersion: Rev. B; PackageVersion: 08/2005; PackageReference: RM-8; PackageDescription: 8-Pin Mini Small Outline Package, Body 3 x 3 mm, Pitch 0.65 mm; Supplier 1: Digi-Key; Supplier Part Number 1: ADT75ARMZ-REELTR-ND; Supplier 2: Digi-Key; Supplier Part Number 2: ADT75ARMZ-REELCT-ND; Supplier 3: Digi-Key; Supplier Part Number 3: ADT75ARMZ-REELDKR-ND; Supplier 4: Newark; Supplier Part Number 4: 30M9931; Supplier 5: Mouser; Supplier Part Number 5: 584-ADT75ARMZ-R; Packing: Reel; Supply Voltage Range: 2.7 to 5.5 V; Mounting Technology: Surface Mount; Code_JEDEC: MO-187-AA; ComponentLink1Description: Manufacturer URL; ComponentLink1URL: http://www.analog.com/en/index.html; ComponentLink2Description: Datasheet; ComponentLink2URL: http://www.analog.com/static/imported-files/data_sheets/ADT75.pdf; ComponentLink3Description: Package Specification; ComponentLink3URL: http://www.analog.com/static/imported-files/packages/PKG_PDF/MSOP%28RM%29/RM_8.pdf; ComponentLink4Description: Product URL; ComponentLink4URL: http://www.analog.com/en/mems-sensors/digital-temperature-sensors/adt75/products/product.html
footprint ADI-RM-8_N (SOP, 8-Leads, Body 3x3mm, Pitch 0.65mm, IPC Medium Density)
footprint ADI-RM-8_L (SOP, 8-Leads, Body 3x3mm, Pitch 0.65mm, IPC High Density)
footprint ADI-RM-8_M (SOP, 8-Leads, Body 3x3mm, Pitch 0.65mm, IPC Low Density)
pins: 1 SDA (io) "SMBus/I2C Serial Data Input/Output. Serial data that is loaded into and read from the ADT75 registers is provided on this pin. Open-drain configuration; needs a pull-up resistor.", 2 SCL (in) "Serial Clock Input. This is the clock input for the serial port. The serial clock is used to clock in and clock out data to and from any register of the ADT75. Open-drain configuration; needs a pull-up resistor.", 3 OS/ALERT (oc) "Over- and Undertemperature Indicator. Default power as an OS pin. Open-drain configuration; needs a pull-up resistor.", 4 GND (power) "Analog and Digital Ground.", 5 A2 (in) "SMBus/I2C Serial Bus Address Selection Pin. Logic input. Can be set to GND or VDD.", 6 A1 (in) "SMBus/I2C Serial Bus Address Selection Pin. Logic input. Can be set to GND or VDD.", 7 A0 (in) "SMBus/I2C Serial Bus Address Selection Pin. Logic input. Can be set to GND or VDD.", 8 VDD (power) "Positive Supply Voltage, 2.7 V to 5.5 V. Decouple the supply to ground."